# Altium footprint library TP4056.PcbLib: 1 footprints
Each footprint in its own frame and in the unit in brackets; x right, y up, seen from the top. Pads: shape width x height; smd on the part's side, far side on the other; paste and mask are expansions set on the pad; w line width, h text height; cw(c..) or ccw(c..) is an arc to the next point about the centre after c.
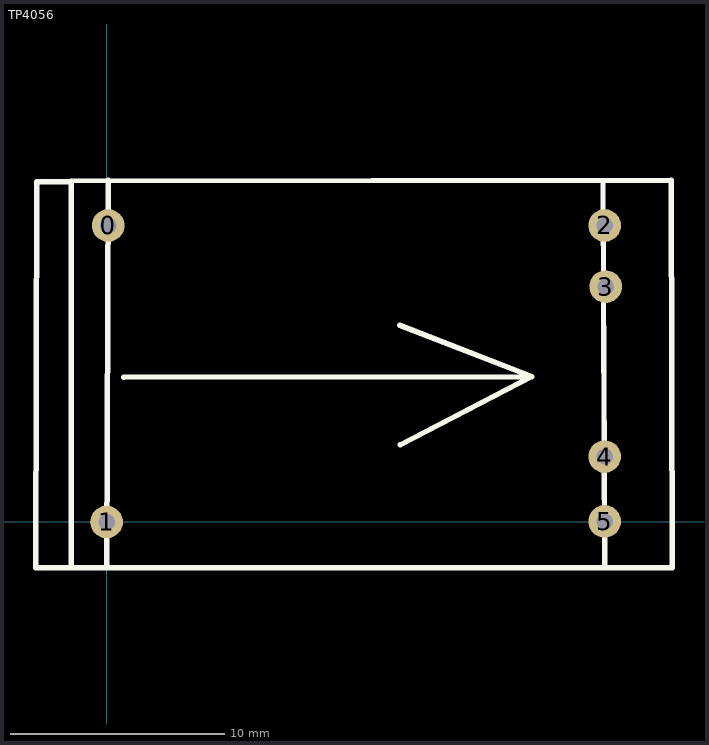
[diagram p0: the footprint, top view; thin cyan lines are the x and y axes]

## TP4056 [mil] "TP4056"
pads (6):
  round 60 hole 30: 0(2.95,544.29) 1(0,0) 2(914.37,544.29) 3(916.34,432.09) 4(914.37,120.08) 5(914.37,0.98)
Top Overlay:
  lines w10: 0,-81.69 2.95,626.97 ; 31.5,265.75 780.51,266.73 ; 538.39,361.22 780.51,266.73 ; 911.42,624.02 914.37,-76.77 ; -64.96,-83.66 1038.39,-83.66 1036.42,626.97 -64.96,625.98 ; -64.96,-83.66 -64.96,625.98 ; -64.96,-83.66 -129.92,-83.66 -127.95,625 -65.94,625 -64.96,625.98 ; 780.51,266.73 539.37,141.73 780.51,266.73
3D body "1S 4056 BMS USB C Module 01b.step": height 187.4, standoff -3.94, extent -118.7,-68.9 1026.18,612.2